# Altium footprint library DPAK_SLIM.PcbLib: 1 footprints
Each footprint in its own frame and in the unit in brackets; x right, y up, seen from the top. Pads: shape width x height; smd on the part's side, far side on the other; paste and mask are expansions set on the pad; w line width, h text height; cw(c..) or ccw(c..) is an arc to the next point about the centre after c.
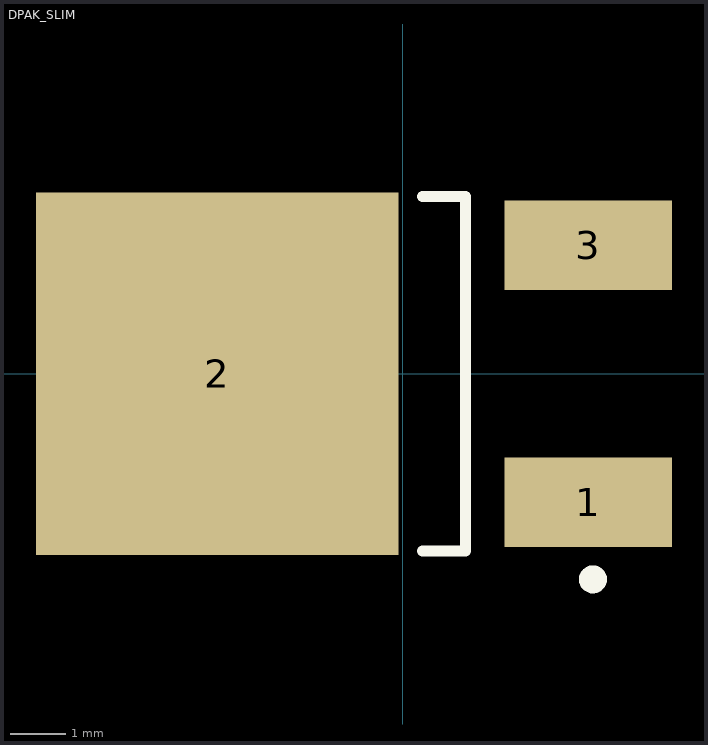
[diagram p0: the footprint, top view; thin cyan lines are the x and y axes]

## DPAK_SLIM [mm] "DPAK"
pads (3):
  rect 3x1.6 smd: 1(3.325,-2.3) 3(3.325,2.3)
  rect 6.5x6.5 smd: 2(-3.325,0)
Top Overlay:
  circle w0.25: c3.406,-3.683 r0.125
  lines w0.2: 0.358,-3.175 1.12,-3.175 1.12,3.175 0.358,3.175
3D body: height 1.3, standoff 0, extent -5.475,-3.1 1.125,3.1